# Altium schematic symbol library TP4056 Board.SchLib: 1 symbol
Pins are listed as number, name and electrical type; pins without a type are passive.

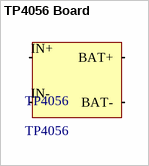
[diagram p0: symbol TP4056 Board]

## TP4056 Board
designator TP4056, comment TP4056
footprint PCBComponent_1
pins: BAT+, BAT-, IN+, IN-